# EAGLE library part LM2623 (library My_TI)
General-Purpose, Gated-Oscillator-Based DC/DC Boost Converter. 0.8-V to 14-V Operating Voltage. 1.1-V Start-up Voltage 1.24-V to 14-V Adjustable Output Voltage. Up to 2-A Load Current at Low Output Voltages
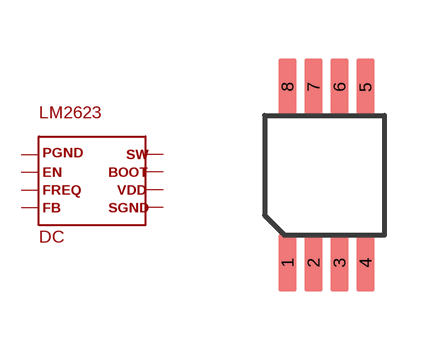
[diagram p13: symbol with the pads of VSSOP8; footprint VSSOP8]

Designator prefix DC

## LM2623  [VSSOP8]
1  P$1
2  P$2
3  P$3
4  P$4
5  P$5
6  P$6
7  P$7
8  P$8

## Footprint VSSOP8 (pad centres in mm)
smd 0.45 x 1.45: 1 -1,-2.2; 2 -0.35,-2.2; 3 0.3,-2.2; 4 0.95,-2.2; 5 0.95,2.2; 6 0.3,2.2; 7 -0.35,2.2; 8 -1,2.2